# EAGLE library part FDS5680 (library zz-m-pad-2.1)
60V N-Channel PowerTrench TM MOSFET FAIRCHILD FDS5680.pdf
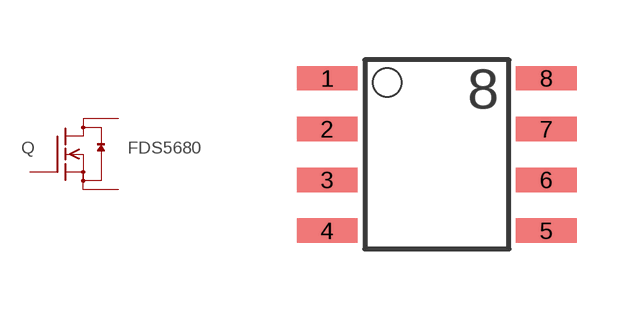
[diagram p64: symbol with the pads of SO-8; footprint SO-8]

Designator prefix Q

## FDS5680  [SO-8]
1  S  pas
2  S  pas
3  S  pas
4  G  pas
5  D  pas
6  D  pas
7  D  pas
8  D  pas

## Footprint SO-8 (pad centres in mm)
small outline
smd 1.524 x 0.61: 1 -2.743,1.27; 2 -2.743,0; 3 -2.743,-1.27; 4 -2.743,-2.54; 5 2.743,-2.54; 6 2.743,-1.27; 7 2.743,0; 8 2.743,1.27